# EAGLE library part CON-HEADER-1X16 (library wolff-den)
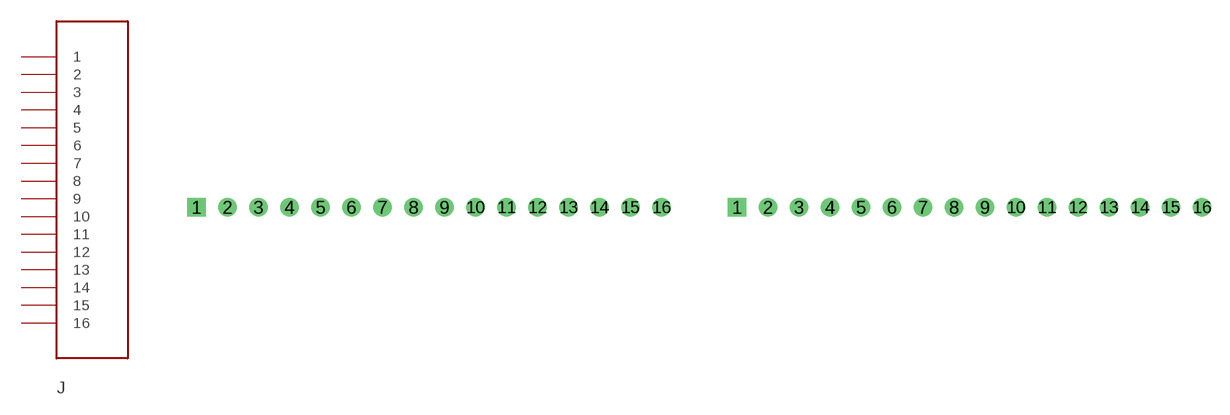
[diagram p2: symbol with the pads of CON-HEADER-1X16; footprints CON-HEADER-1X16, CON-HEADER-1X16-MALE-PIN]

Designator prefix J

## CON-HEADER-1X16, CON-HEADER-1X16-PPPC161LFBN-RC (DESC: CONN HDR 16POS 0.1 GOLD PCB; DIGIKEYPN: S7049-ND; MF: Sullins Connector Solutions; MPN: PPPC161LFBN-RC), CON-HEADER-1X16-PPTC161LFBN-RC (DESC: CONN HDR 16POS 0.1 TIN PCB; MF: Sullins Connector Solutions; MPN: PPTC161LFBN-RC)  [CON-HEADER-1X16]
1  1
2  2
3  3
4  4
5  5
6  6
7  7
8  8
9  9
10  10
11  11
12  12
13  13
14  14
15  15
16  16

## CON-HEADER-1X16-MALE-PIN  [CON-HEADER-1X16-MALE-PIN]
Pads as for CON-HEADER-1X16

## CON-HEADER-1X16-POGO-1P9 (ALIAS: POGO-1.9MM-S19-501; MQTY: 16)  [CON-HEADER-1X16-POGO_1P9]
Pads as for CON-HEADER-1X16

## Footprint CON-HEADER-1X16 (pad centres in mm)
PIN HEADER
drill 1.016 square: 1 0,0
drill 1.016: 2 2.54,0; 3 5.08,0; 4 7.62,0; 5 10.16,0; 6 12.7,0; 7 15.24,0; 8 17.78,0; 9 20.32,0; 10 22.86,0; 11 25.4,0; 12 27.94,0; 13 30.48,0; 14 33.02,0; 15 35.56,0; 16 38.1,0

## Footprint CON-HEADER-1X16-MALE-PIN (pad centres in mm)
PIN HEADER
drill 1.016 square: 1 0,0
drill 1.016: 2 2.54,0; 3 5.08,0; 4 7.62,0; 5 10.16,0; 6 12.7,0; 7 15.24,0; 8 17.78,0; 9 20.32,0; 10 22.86,0; 11 25.4,0; 12 27.94,0; 13 30.48,0; 14 33.02,0; 15 35.56,0; 16 38.1,0

## Footprint CON-HEADER-1X16-POGO_1P9 (pad centres in mm)
PIN HEADER
drill 1.29 square: 1 0,0
drill 1.29: 2 2.54,0; 3 5.08,0; 4 7.62,0; 5 10.16,0; 6 12.7,0; 7 15.24,0; 8 17.78,0; 9 20.32,0; 10 22.86,0; 11 25.4,0; 12 27.94,0; 13 30.48,0; 14 33.02,0; 15 35.56,0; 16 38.1,0